# Altium footprint library Anybus-CompactCom_B40.PcbLib: 2 footprints
Each footprint in its own frame and in the unit in brackets; x right, y up, seen from the top. Pads: shape width x height; smd on the part's side, far side on the other; paste and mask are expansions set on the pad; w line width, h text height; cw(c..) or ccw(c..) is an arc to the next point about the centre after c.
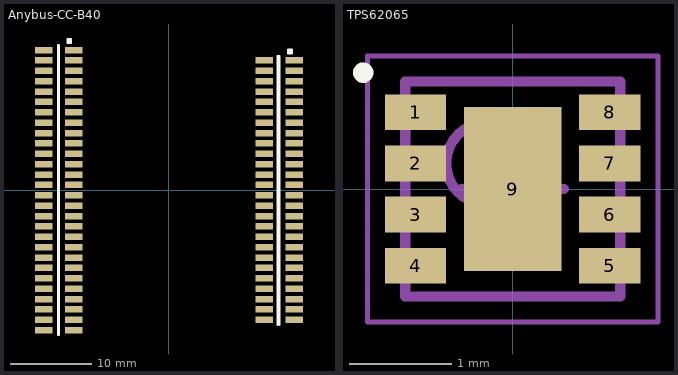
[diagram p0: the footprints below, top view; thin cyan lines are the x and y axes]

## Anybus-CC-B40 [mm]
pads (108):
  rect 2.15x0.8 smd: 1(15.325,15.874) 2(11.675,15.874) 3(15.325,14.604) 4(11.675,14.604) 5(15.325,13.334) 6(11.675,13.334) 7(15.325,12.064) 8(11.675,12.064) 9(15.325,10.794) 10(11.675,10.794) 11(15.325,9.524) 12(11.675,9.524) 13(15.325,8.254) 14(11.675,8.254) 15(15.325,6.984) 16(11.675,6.984) 17(15.325,5.714) 18(11.675,5.714) 19(15.325,4.444) 20(11.675,4.444) 21(15.325,3.174) 22(11.675,3.174) 23(15.325,1.904) 24(11.675,1.904) 25(15.325,0.634) 26(11.675,0.634) 27(15.325,-0.636) 28(11.675,-0.636) 29(15.325,-1.906) 30(11.675,-1.906) 31(15.325,-3.176) 32(11.675,-3.176) 33(15.325,-4.446) 34(11.675,-4.446) 35(15.325,-5.716) 36(11.675,-5.716) 37(15.325,-6.986) 38(11.675,-6.986) 39(15.325,-8.256) 40(11.675,-8.256) 41(15.325,-9.526) 42(11.675,-9.526) 43(15.325,-10.796) 44(11.675,-10.796) 45(15.325,-12.066) 46(11.675,-12.066) 47(15.325,-13.336) 48(11.675,-13.336) 49(15.325,-14.606) 50(11.675,-14.606) 51(15.325,-15.876) 52(11.675,-15.876) 101(-11.675,17.145) 102(-15.325,17.145) 103(-11.675,15.875) 104(-15.325,15.875) 105(-11.675,14.605) 106(-15.325,14.605) 107(-11.675,13.335) 108(-15.325,13.335) 109(-11.675,12.065) 110(-15.325,12.065) 111(-11.675,10.795) 112(-15.325,10.795) 113(-11.675,9.525) 114(-15.325,9.525) 115(-11.675,8.255) 116(-15.325,8.255) 117(-11.675,6.985) 118(-15.325,6.985) 119(-11.675,5.715) 120(-15.325,5.715) 121(-11.675,4.445) 122(-15.325,4.445) 123(-11.675,3.175) 124(-15.325,3.175) 125(-11.675,1.905) 126(-15.325,1.905) 127(-11.675,0.635) 128(-15.325,0.635) 129(-11.675,-0.635) 130(-15.325,-0.635) 131(-11.675,-1.905) 132(-15.325,-1.905) 133(-11.675,-3.175) 134(-15.325,-3.175) 135(-11.675,-4.445) 136(-15.325,-4.445) 137(-11.675,-5.715) 138(-15.325,-5.715) 139(-11.675,-6.985) 140(-15.325,-6.985) 141(-11.675,-8.255) 142(-15.325,-8.255) 143(-11.675,-9.525) 144(-15.325,-9.525) 145(-11.675,-10.795) 146(-15.325,-10.795) 147(-11.675,-12.065) 148(-15.325,-12.065) 149(-11.675,-13.335) 150(-15.325,-13.335) 151(-11.675,-14.605) 152(-15.325,-14.605) 153(-11.675,-15.875) 154(-15.325,-15.875) 155(-11.675,-17.145) 156(-15.325,-17.145)
Top Overlay:
  rectangle: -12.452,18 -11.952,18.5
  rectangle: 14.548,16.729 15.048,17.229
  lines w0.2: -13.585,-17.78 -13.585,17.78 -13.415,17.78 -13.415,-17.78 -13.585,-17.78 ; -12.452,18 -11.952,18 -11.952,18.5 -12.452,18.5 -12.452,18 ; 14.548,16.729 14.548,17.229 15.048,17.229 15.048,16.729 14.548,16.729
  lines w0.254: 13.293,-16.511 13.293,16.387 13.542,16.387 13.547,16.382 13.547,-16.511
3D body: height 4.4, standoff 0, extent -15.05,-17.3 -11.95,17.3
3D body: height 4.4, standoff 0, extent 11.95,-16.003 15.05,16.029

## TPS62065 [mm] "PSON, 8-Leads, Body 2,00x2,00mm, Pitch 0,50mm, Thermal Pad 1,60x0,95mm, IPC Medium Density"
height 0.8
pads (9):
  rect 0.6x0.35 smd: 1(-0.95,0.75) 2(-0.95,0.25) 3(-0.95,-0.25) 4(-0.95,-0.75) 5(0.95,-0.75) 6(0.95,-0.25) 7(0.95,0.25) 8(0.95,0.75)
  rect 0.95x1.6 smd: 9(0,0)
Top Overlay:
  circle w0.1: c-1.462,1.137 r0.05
Mechanical 13:
  circle w0.1: c-0.25,0.25 r0.4
  lines w0.1: -1.05,-1.05 -1.05,1.05 1.05,1.05 1.05,-1.05 -1.05,-1.05
Mechanical 15:
  lines w0.05: -1.42,-1.3 -1.42,1.3 1.42,1.3 1.42,-1.3 -1.42,-1.3
  lines w0.1: -0.5,0 0.5,0 ; 0,-0.5 0,0.5
3D body: height 0.8, standoff 0, extent -1.05,-1.05 1.05,1.05